# Altium footprint library 底盘.PcbLib: 38 footprints (part 1 of 3)
Each footprint in its own frame and in the unit in brackets; x right, y up, seen from the top. Pads: shape width x height; smd on the part's side, far side on the other; paste and mask are expansions set on the pad; w line width, h text height; cw(c..) or ccw(c..) is an arc to the next point about the centre after c.
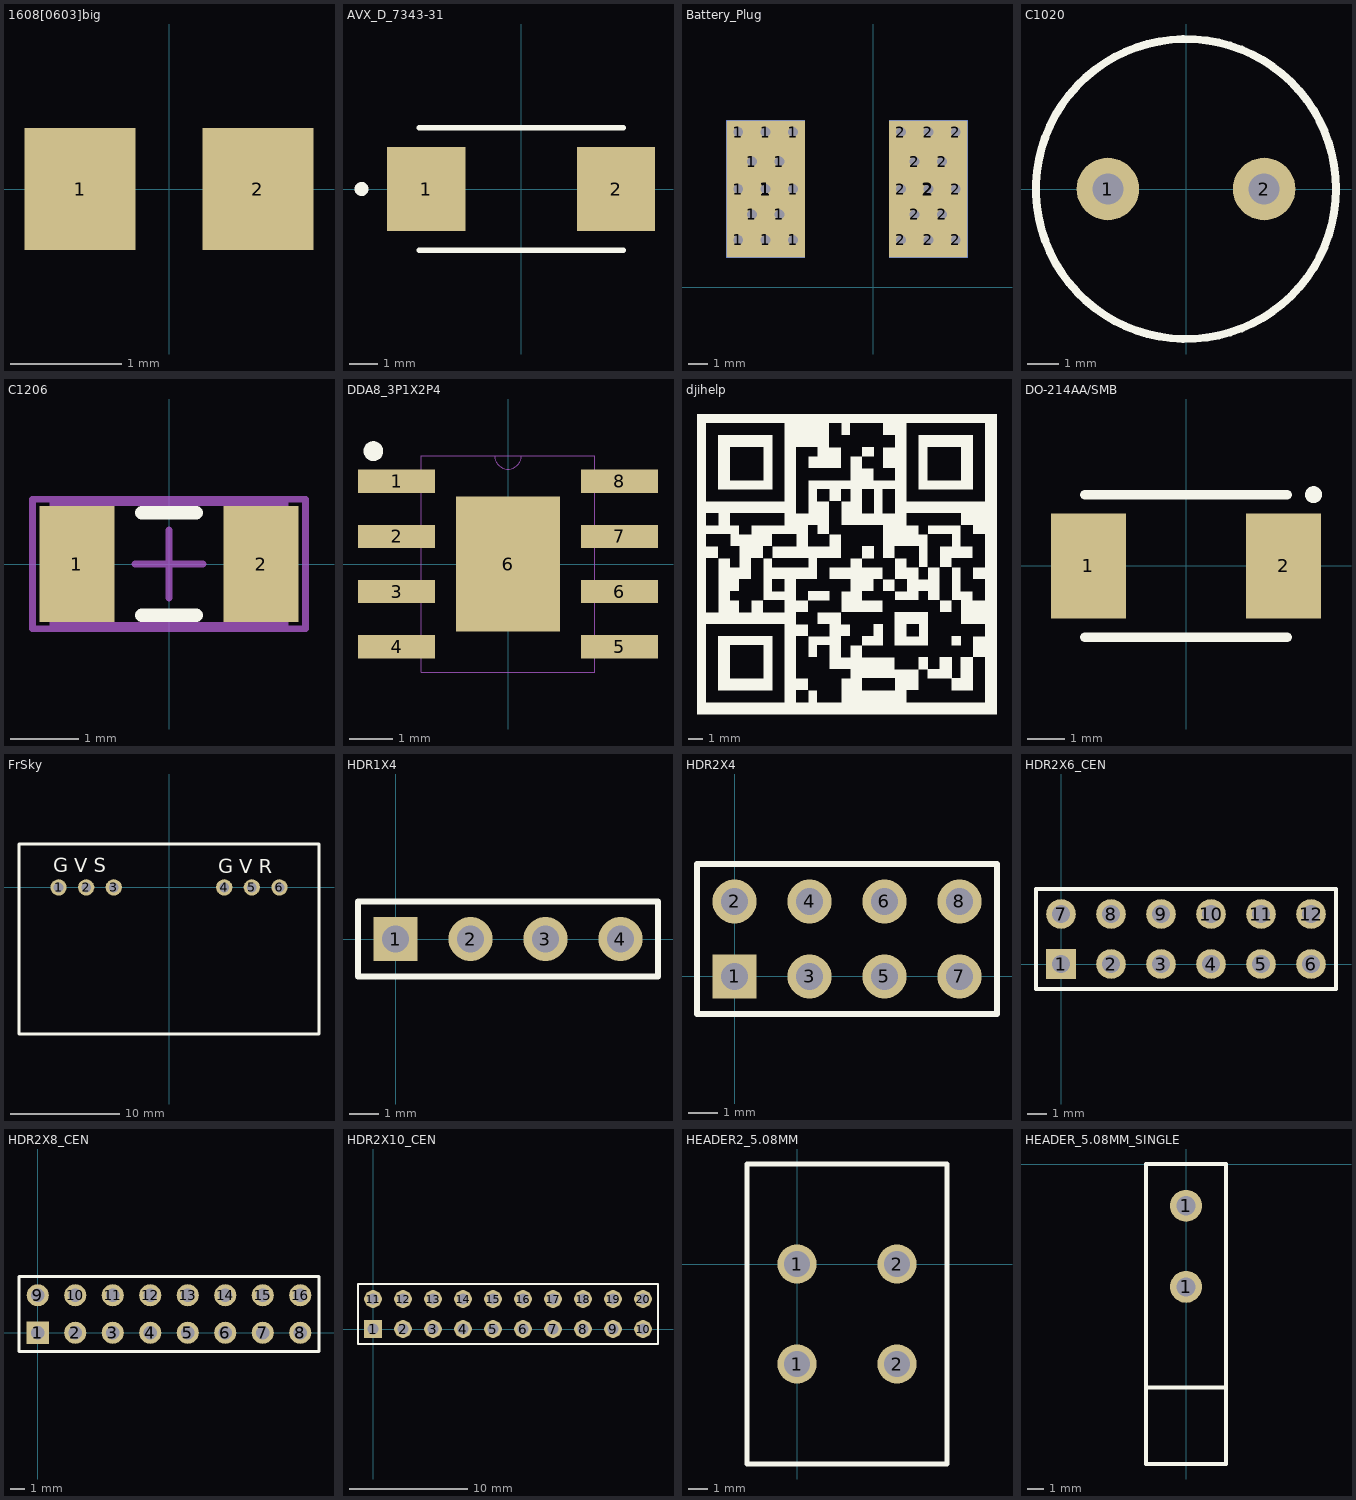
[diagram p0: the footprints below, top view; thin cyan lines are the x and y axes]

## 1608[0603]big [mm] "Chip Capacitor, Body 1.6x0.8mm, IPC High Density"
height 1.3
pads (2):
  rect 1x1.1 smd: 1(-0.8,0) 2(0.8,0)
3D body: height 1.3, standoff 0, extent -0.875,-0.475 0.875,0.475

## AVX_D_7343-31 [mm]
height 1.3
pads (2):
  rect 2.8x3 smd: 1(-3.4,0) 2(3.4,0)
Top Overlay:
  circle w0.25: c-5.715,0 r0.127
  lines w0.2: -3.65,-2.2 3.65,-2.2 ; -3.65,2.2 3.65,2.2

## Battery_Plug [mm]
height 1.3
pads (30):
  round 1 hole 0.5: 1(-6.9,5) 1(-6.9,2.4) 1(-6.9,7.9) 1(-6.2,3.7) 1(-6.2,6.4) 1(-5.5,5) 1(-5.5,2.4) 1(-5.5,7.9) 1(-4.8,3.7) 1(-4.8,6.4) 1(-4.1,5) 1(-4.1,2.4) 1(-4.1,7.9) 2(1.4,5) 2(1.4,2.4) 2(1.4,7.9) 2(2.1,3.7) 2(2.1,6.4) 2(2.8,5) 2(2.8,2.4) 2(2.8,7.9) 2(3.5,3.7) 2(3.5,6.4) 2(4.2,5) 2(4.2,2.4) 2(4.2,7.9)
  rect 4x7 smd: 1(-5.5,5) 2(2.8,5)
  rect 4x7 smd far side: 1(-5.5,5) 2(2.8,5)

## C1020 [mm]
height 1.3
pads (2):
  round 2 hole 1: 1(-2.5,0) 2(2.5,0)
Top Overlay:
  circle w0.254: c0,0 r4.8

## C1206 [mm] "Chip Capacitor, Body 3.2x1.6mm, IPC High Density"
height 1.3
pads (2):
  rect 1.1x1.7 smd: 1(-1.35,0) 2(1.35,0)
Top Overlay:
  lines w0.2: -0.4,-0.75 0.4,-0.75 ; -0.4,0.75 0.4,0.75
Mechanical 13:
  lines w0.1: -1.7,-0.9 1.7,-0.9 1.7,0.9 -1.7,0.9 -1.7,-0.9
Mechanical 15:
  lines w0.1: -0.5,0 0.5,0 ; 0,-0.5 0,0.5 ; -2,-0.95 2,-0.95 2,0.95 -2,0.95 -2,-0.95
3D body: height 1.3, standoff 0, extent -1.7,-0.9 1.7,0.9

## DDA8_3P1X2P4 [mil]
height 51.18
pads (9):
  rect 70x21 smd: 1(-101,75) 2(-101,25) 3(-101,-25) 4(-101,-75) 5(101,-75) 6(101,-25) 7(101,25) 8(101,75)
  rect 94.49x122.05 smd paste-60.52: 6(0,0)
Top Overlay:
  circle w10: c-122.05,102.36 r3.94
Top Paste:
  region: 43.31,57.09 -43.31,57.09 -43.31,3.94 43.31,3.94
  region: 43.31,-3.94 -43.31,-3.94 -43.31,-57.09 43.31,-57.09
Mechanical 1:
  lines w0: -12,98 ccw(c0,98) 12,98 ; -122,-84.5 -122,-65.5 -78.5,-65.5 -78.5,-84.5 -122,-84.5 ; -122,-34.5 -122,-15.5 -78.5,-15.5 -78.5,-34.5 -122,-34.5 ; -122,15.5 -122,34.5 -78.5,34.5 -78.5,15.5 -122,15.5 ; -122,65.5 -122,84.5 -78.5,84.5 -78.5,65.5 -122,65.5 ; -78.5,-98 78.5,-98 78.5,98 -78.5,98 -78.5,-98 ; 78.5,-84.5 78.5,-65.5 122,-65.5 122,-84.5 78.5,-84.5 ; 78.5,-34.5 78.5,-15.5 122,-15.5 122,-34.5 78.5,-34.5 ; 78.5,15.5 78.5,34.5 122,34.5 122,15.5 78.5,15.5 ; 78.5,65.5 78.5,84.5 122,84.5 122,65.5 78.5,65.5

## djihelp [mm]
height 1.3
Top Overlay:
  drawing of 11 lines, arcs and shapes, not listed

## DO-214AA/SMB [mm]
height 1.3
pads (2):
  rect 2x2.8 smd: 1(-2.6,0) 2(2.6,0)
Top Overlay:
  circle w0.254: c3.4,1.9 r0.1
  lines w0.254: -2.7,-1.9 2.7,-1.9 ; -2.7,1.9 2.7,1.9

## FrSky [mm]
pads (6):
  round 1.5 hole 0.9: 1(-10.16,0) 2(-7.62,0) 3(-5.08,0) 4(5.08,0) 5(7.62,0) 6(10.16,0)
Top Overlay:
  lines w0.254: -13.8,-13.5 13.8,-13.5 13.8,4 -13.8,4 -13.8,-13.5
  text "G V R" at 4.54,1.3 h1.3
  text "G V S" at -10.66,1.4 h1.3

## HDR1X4 [mm] "Connector; Header; 4 Position"
height 1.3
pads (4):
  rect 1.5x1.5 hole 0.9: 1(0,0)
  round 1.5 hole 0.9: 2(2.54,0) 3(5.08,0) 4(7.62,0)
Top Overlay:
  lines w0.2: -1.27,-1.27 -1.27,1.27 8.89,1.27 8.89,-1.27 -1.27,-1.27

## HDR2X4 [mm] "Connector; Header; 4x2 Position"
height 1.3
pads (8):
  rect 1.5x1.5 hole 0.9: 1(0,0)
  round 1.5 hole 0.9: 2(0,2.54) 3(2.54,0) 4(2.54,2.54) 5(5.08,0) 6(5.08,2.54) 7(7.62,0) 8(7.62,2.54)
Top Overlay:
  lines w0.2: -1.27,-1.27 8.89,-1.27 8.89,3.81 -1.27,3.81 -1.27,-1.27

## HDR2X6_CEN [mm] "Connector; Header; 6x2 Position"
height 1.3
pads (12):
  rect 1.5x1.5 hole 0.9: 1(0,0)
  round 1.5 hole 0.9: 2(2.54,0) 3(5.08,0) 4(7.62,0) 5(10.16,0) 6(12.7,0) 7(0,2.54) 8(2.54,2.54) 9(5.08,2.54) 10(7.62,2.54) 11(10.16,2.54) 12(12.7,2.54)
Top Overlay:
  lines w0.2: -1.27,-1.27 -1.27,3.81 13.97,3.81 13.97,-1.27 -1.27,-1.27

## HDR2X8_CEN [mm] "Connector; Header; 8x2 Position"
height 1.3
pads (16):
  rect 1.5x1.5 hole 0.9: 1(0,0)
  round 1.5 hole 0.9: 2(2.54,0) 3(5.08,0) 4(7.62,0) 5(10.16,0) 6(12.7,0) 7(15.24,0) 8(17.78,0) 9(0,2.54) 10(2.54,2.54) 11(5.08,2.54) 12(7.62,2.54) 13(10.16,2.54) 14(12.7,2.54) 15(15.24,2.54) 16(17.78,2.54)
Top Overlay:
  lines w0.2: -1.27,-1.27 19.05,-1.27 19.05,3.81 -1.27,3.81 -1.27,-1.27

## HDR2X10_CEN [mm] "Connector; Header; 10x2 Position"
height 1.3
pads (20):
  rect 1.5x1.5 hole 0.9: 1(0,0)
  round 1.5 hole 0.9: 2(2.54,0) 3(5.08,0) 4(7.62,0) 5(10.16,0) 6(12.7,0) 7(15.24,0) 8(17.78,0) 9(20.32,0) 10(22.86,0) 11(0,2.54) 12(2.54,2.54) 13(5.08,2.54) 14(7.62,2.54) 15(10.16,2.54) 16(12.7,2.54) 17(15.24,2.54) 18(17.78,2.54) 19(20.32,2.54) 20(22.86,2.54)
Top Overlay:
  lines w0.2: -1.27,-1.27 24.13,-1.27 24.13,3.81 -1.27,3.81 -1.27,-1.27

## HEADER2_5.08MM [mm]
pads (4):
  round 2 hole 1.3: 1(0,-5.08) 1(0,0) 2(5.08,-5.08) 2(5.08,0)
Top Overlay:
  lines w0.254: -2.54,-10.16 7.62,-10.16 7.62,5.08 -2.54,5.08 -2.54,-10.16

## HEADER_5.08MM_SINGLE [mm]
pads (2):
  round 2 hole 1.2: 1(0,-7.7) 1(0,-2.62)
Top Overlay:
  lines w0.25: -2.5,0 2.5,0
  lines w0.254: -2.5,0 -2.5,-14 ; 2.5,0 2.5,-14 ; -2.5,-14 -2.5,-18.8 2.5,-18.8 2.5,-14 ; -2.5,-14 2.5,-14